# EAGLE library part AD7940 (library arducorder-mini)
Analog Devices AD7940BRJZ 14-bit ADC, 100k Samples/sec sample rate, 2.5-5V single supply
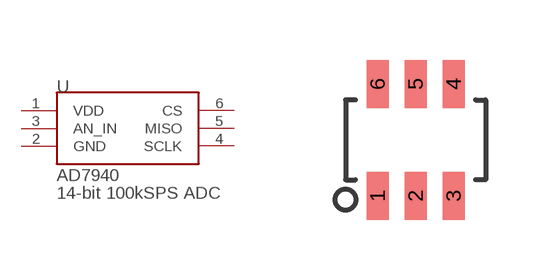
[diagram p9: symbol with the pads of SOT-23-6L; footprint SOT-23-6L]

Designator prefix -

## AD7940  [SOT-23-6L]
1  VDD
2  GND
3  AN_IN
4  SCLK
5  MISO
6  CS

## Footprint SOT-23-6L (pad centres in mm)
smd 0.55 x 1.2: 1 -0.95,-1.4; 2 0,-1.4; 3 0.95,-1.4; 4 0.95,1.4; 5 0,1.4; 6 -0.95,1.4